# Altium footprint library HEADER_2_RA_S.PcbLib: 1 footprints
Each footprint in its own frame and in the unit in brackets; x right, y up, seen from the top. Pads: shape width x height; smd on the part's side, far side on the other; paste and mask are expansions set on the pad; w line width, h text height; cw(c..) or ccw(c..) is an arc to the next point about the centre after c.
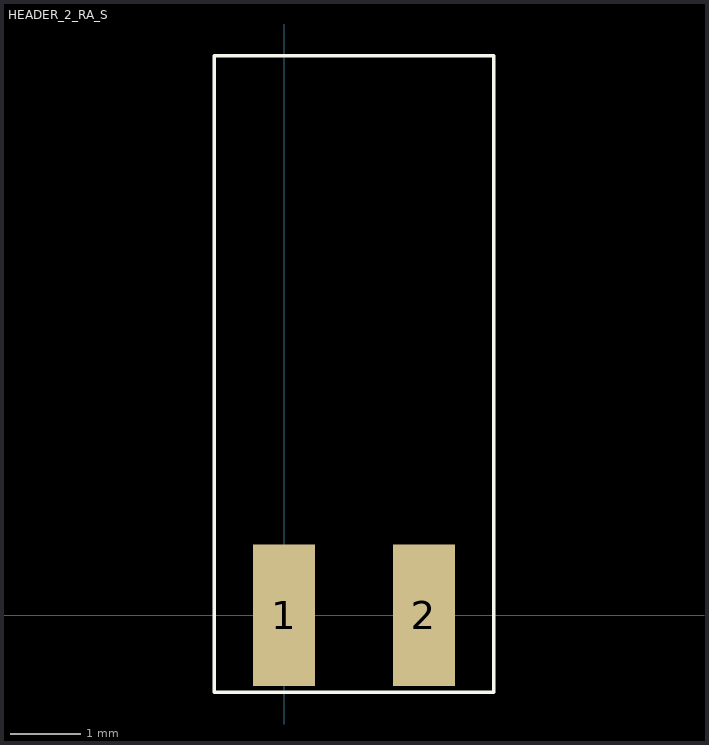
[diagram p0: the footprint, top view; thin cyan lines are the x and y axes]

## HEADER_2_RA_S [mm]
pads (2):
  rect 0.89x2.03 smd: 1(0,0) 2(2,0)
Top Overlay:
  lines w0.051: -1,-1.1 -1,8 3,8 3,-1.1 -1,-1.1
3D body: height 2, standoff 0, extent -1,-0.68 3,7.92